# EAGLE library part M2X3 (library FSAE Electric (Alexander Ray's conflicted copy 2016-04-02))
Molex 2x3 Pin Connectors
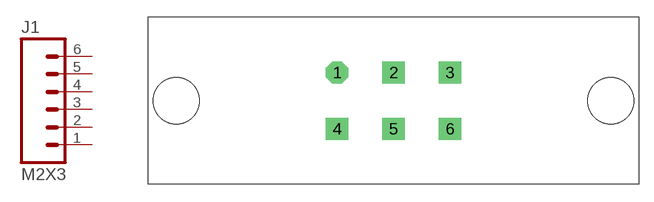
[diagram p89: symbol with the pads of MOLEX-MX150L; footprint MOLEX-MX150L]

Designator prefix J1

## M2X3MX150L (PARTNO: 19427-0018)  [MOLEX-MX150L]
1  1  pas
2  2  pas
3  3  pas
4  4  pas
5  5  pas
6  6  pas

## Footprint MOLEX-MX150L (pad centres in mm)
Molex MX150L 2x3 Right-angle PCB Header View Datasheet <http://www.molex.com/webdocs/datasheets/pdf/en-us/0194270018_PCB_HEADERS.pdf>
drill 1.524 octagon: 1 -5.842,2.921
drill 1.524 square: 2 0,2.921; 3 5.842,2.921; 4 -5.842,-2.921; 5 0,-2.921; 6 5.842,-2.921
hole 4.775 at -22.479,0
hole 4.775 at 22.479,0